# EAGLE library part LED-DISPLAY-YSD-439A (library SPCoast)
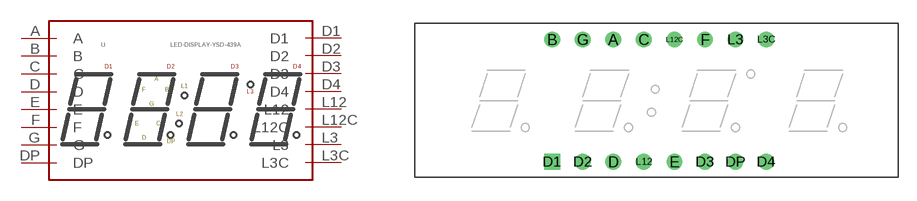
[diagram p15: symbol with the pads of YSM-439AXXA-35; footprint YSM-439AXXA-35]

Designator prefix -

## LED-DISPLAY-YSD-439A  [YSM-439AXXA-35]
A  A
B  B
C  C
D  D
D1  D1
D2  D2
D3  D3
D4  D4
DP  DP
E  E
F  F
G  G
L3  L3
L3C  L3C
L12  L12
L12C  L12C

## Footprint YSM-439AXXA-35 (pad centres in mm)
drill 0.8: A -4.445,5.715; B -9.525,5.715; C -1.905,5.715; D -4.445,-4.445; D2 -6.985,-4.445; D3 3.175,-4.445; D4 8.255,-4.445; DP 5.715,-4.445; E 0.635,-4.445; F 3.175,5.715; G -6.985,5.715; L3 5.715,5.715; L3C 8.255,5.715; L12 -1.905,-4.445; L12C 0.635,5.715
drill 0.8 square: D1 -9.525,-4.445